# Altium integrated library 599-0010-137F.IntLib: 1 symbol
Pins are listed as number, name and electrical type; pins without a type are passive.

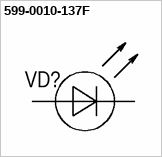
[diagram p0: symbol 599-0010-137F]

## 599-0010-137F
designator VD?  (value not drawn)
Single Colour LED
footprint 599-0010-137F (Dialight) (Chip LED, 2-Leads, Body 1.60x0.80 mm, IPC Medium Density)
pins: 1, 2